# Altium footprint library PCB - LED - CREE J 2835.PcbLib: 1 footprints
Each footprint in its own frame and in the unit in brackets; x right, y up, seen from the top. Pads: shape width x height; smd on the part's side, far side on the other; paste and mask are expansions set on the pad; w line width, h text height; cw(c..) or ccw(c..) is an arc to the next point about the centre after c.
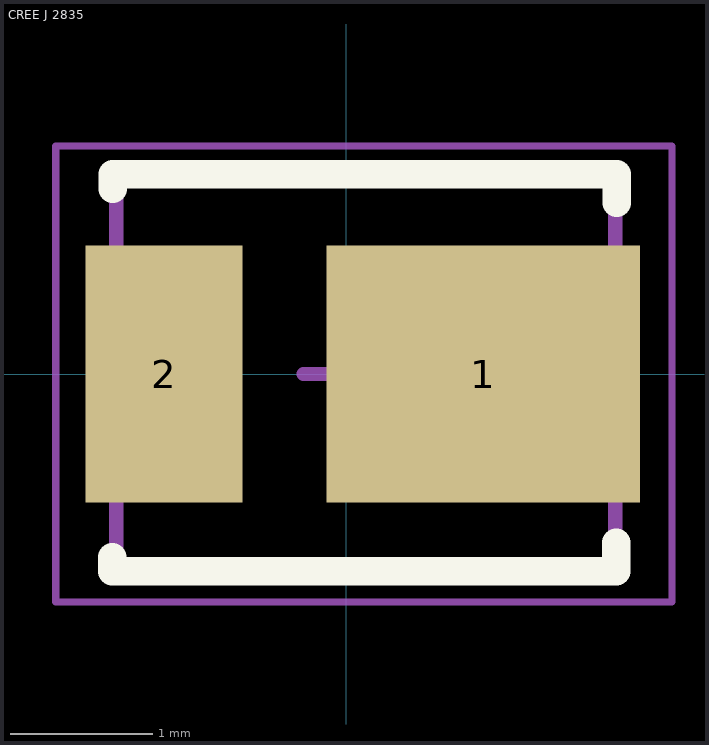
[diagram p0: the footprint, top view; thin cyan lines are the x and y axes]

## CREE J 2835 [mm] "LED, 2-Leads, Body 3.5x2.8mm, CREE JE2835AWT-00-0000-000A0ZF627E"
height 0.7
pads (2):
  rect 2.2x1.8 smd: 1(0.962,0)
  rect 1.1x1.8 smd: 2(-1.278,0)
Top Overlay:
  lines w0.2: -1.641,-1.285 -1.641,-1.385 1.897,-1.385 1.897,-1.185 ; -1.637,1.3 -1.637,1.4 1.9,1.4 1.9,1.2
Mechanical 13:
  lines w0.1: -1.613,-1.4 1.887,-1.4 1.887,1.4 -1.613,1.4 -1.613,-1.4
Mechanical 15:
  lines w0.05: -2.037,-1.6 2.287,-1.6 2.287,1.6 -2.037,1.6 -2.037,-1.6
Mechanical 2 (Mech9):
  lines w0.1: -0.3,0 0.3,0 ; 0,0.3 0,0 ; 0,0 0,-0.3 0,0
3D body "Cree - 2835 J.step": height 0.7, standoff 0, extent -1.623,-1.4 1.898,1.4